# Altium schematic symbol library eUSR_SchLibrary - TestPoints.SchLib: 4 symbols
Pins are listed as number, name and electrical type; pins without a type are passive.

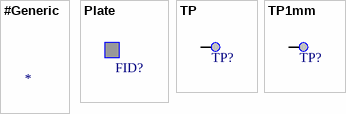
[diagram p0: symbols #Generic to TP1mm]

## #Generic
designator ?
Manufacturing: #####; Value: #####; Package: #####; Price: #####; PN: #####; ComponentLink1Description: Datasheet; ComponentLink1URL: #####; ComponentLink2Description: Distributor Link; ComponentLink2URL: #####; Distributor: #####; Distributor PN: #####

## Plate
designator FID?, comment Test Point  (value not drawn)  (no BOM)
ComponentLink1URL: *; ComponentLink1Description: Datasheet; ComponentLink2Description: Distributor Link; ComponentLink2URL: *

## TP
designator TP?, comment Test Point  (value not drawn)  (no BOM)
ComponentLink1URL: *; ComponentLink1Description: Datasheet; ComponentLink2Description: Distributor Link; ComponentLink2URL: *
pins: 1

## TP1mm
designator TP?, comment Test Point  (value not drawn)  (no BOM)
Test Point 1mm; ComponentLink1URL: *; ComponentLink1Description: Datasheet; ComponentLink2Description: Distributor Link; ComponentLink2URL: *
pins: 1